# Altium schematic symbol library DRV8837DSGR.SchLib: 1 symbol
Pins are listed as number, name and electrical type; pins without a type are passive.

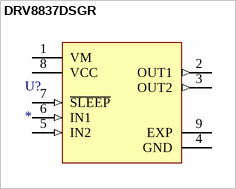
[diagram p0: symbol DRV8837DSGR]

## DRV8837DSGR
designator U?
Value: *
pins: 1 VM (power), 2 OUT1 (out), 3 OUT2 (out), 4 GND (power), 5 IN2 (in), 6 IN1 (in), 7 ~{SLEEP} (in), 8 VCC (power), 9 EXP (power)